# EAGLE library part AK4619VN (library ak4619vn)
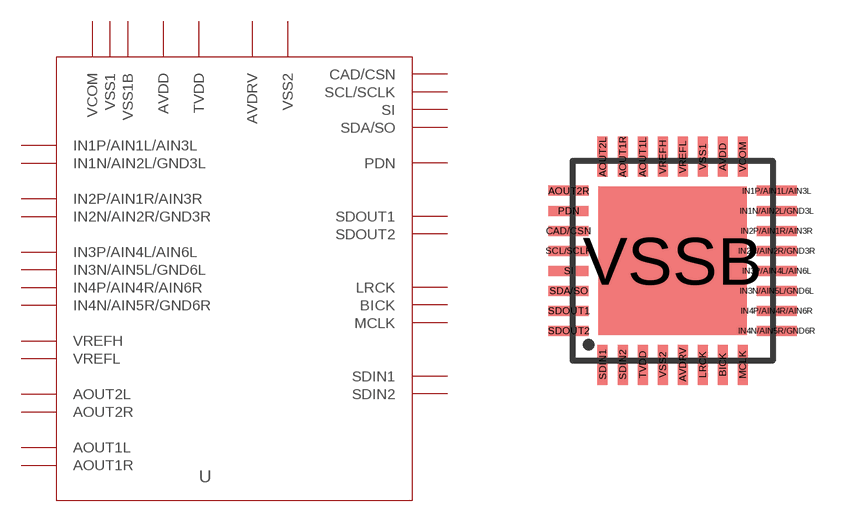
[diagram p0: symbol with the pads of 32-QFN; footprint 32-QFN]

Designator prefix -

## AK4619VN  [32-QFN]
AOUT1L  AOUT1L  out
AOUT1R  AOUT1R  out
AOUT2L  AOUT2L  out
AOUT2R  AOUT2R  out
AVDD  AVDD  pwr
AVDRV  AVDRV  pwr
BICK  BICK
CAD/CSN  CAD/CSN  in
IN1N/AIN2L/GND3L  IN1N/AIN2L/GND3L  in
IN1P/AIN1L/AIN3L  IN1P/AIN1L/AIN3L  in
IN2N/AIN2R/GND3R  IN2N/AIN2R/GND3R  in
IN2P/AIN1R/AIN3R  IN2P/AIN1R/AIN3R  in
IN3N/AIN5L/GND6L  IN3N/AIN5L/GND6L  in
IN3P/AIN4L/AIN6L  IN3P/AIN4L/AIN6L  in
IN4N/AIN5R/GND6R  IN4N/AIN5R/GND6R  in
IN4P/AIN4R/AIN6R  IN4P/AIN4R/AIN6R  in
LRCK  LRCK  in
MCLK  MCLK
PDN  PDN  in
SCL/SCLK  SCL/SCLK  in
SDA/SO  SDA/SO
SDIN1  SDIN1  in
SDIN2  SDIN2  in
SDOUT1  SDOUT1  out
SDOUT2  SDOUT2  out
SI  SI  in
TVDD  TVDD  pwr
VCOM  VCOM  pwr
VREFH  VREFH  in
VREFL  VREFL  in
VSS1  VSS1  pwr
VSS2  VSS2
VSSB  VSS1B  pwr

## Footprint 32-QFN (pad centres in mm)
smd 0.25 x 1: AOUT1L -0.75,2.6; AOUT1R -1.25,2.6; AOUT2L -1.75,2.6; AVDD 1.25,2.6; AVDRV 0.25,-2.6; BICK 1.25,-2.6; LRCK 0.75,-2.6; MCLK 1.75,-2.6; SDIN1 -1.75,-2.6; SDIN2 -1.25,-2.6; TVDD -0.75,-2.6; VCOM 1.75,2.6; VREFH -0.25,2.6; VREFL 0.25,2.6; VSS1 0.75,2.6; VSS2 -0.25,-2.6
smd 1 x 0.25: AOUT2R -2.6,1.75; CAD/CSN -2.6,0.75; IN1N/AIN2L/GND3L 2.6,1.25; IN1P/AIN1L/AIN3L 2.6,1.75; IN2N/AIN2R/GND3R 2.6,0.25; IN2P/AIN1R/AIN3R 2.6,0.75; IN3N/AIN5L/GND6L 2.6,-0.75; IN3P/AIN4L/AIN6L 2.6,-0.25; IN4N/AIN5R/GND6R 2.6,-1.75; IN4P/AIN4R/AIN6R 2.6,-1.25; PDN -2.6,1.25; SCL/SCLK -2.6,0.25; SDA/SO -2.6,-0.75; SDOUT1 -2.6,-1.25; SDOUT2 -2.6,-1.75; SI -2.6,-0.25
smd 3.7 x 3.7: VSSB 0,0